# Altium footprint library ATACS_PCB.PcbLib: 19 footprints (part 1 of 2)
Each footprint in its own frame and in the unit in brackets; x right, y up, seen from the top. Pads: shape width x height; smd on the part's side, far side on the other; paste and mask are expansions set on the pad; w line width, h text height; cw(c..) or ccw(c..) is an arc to the next point about the centre after c.
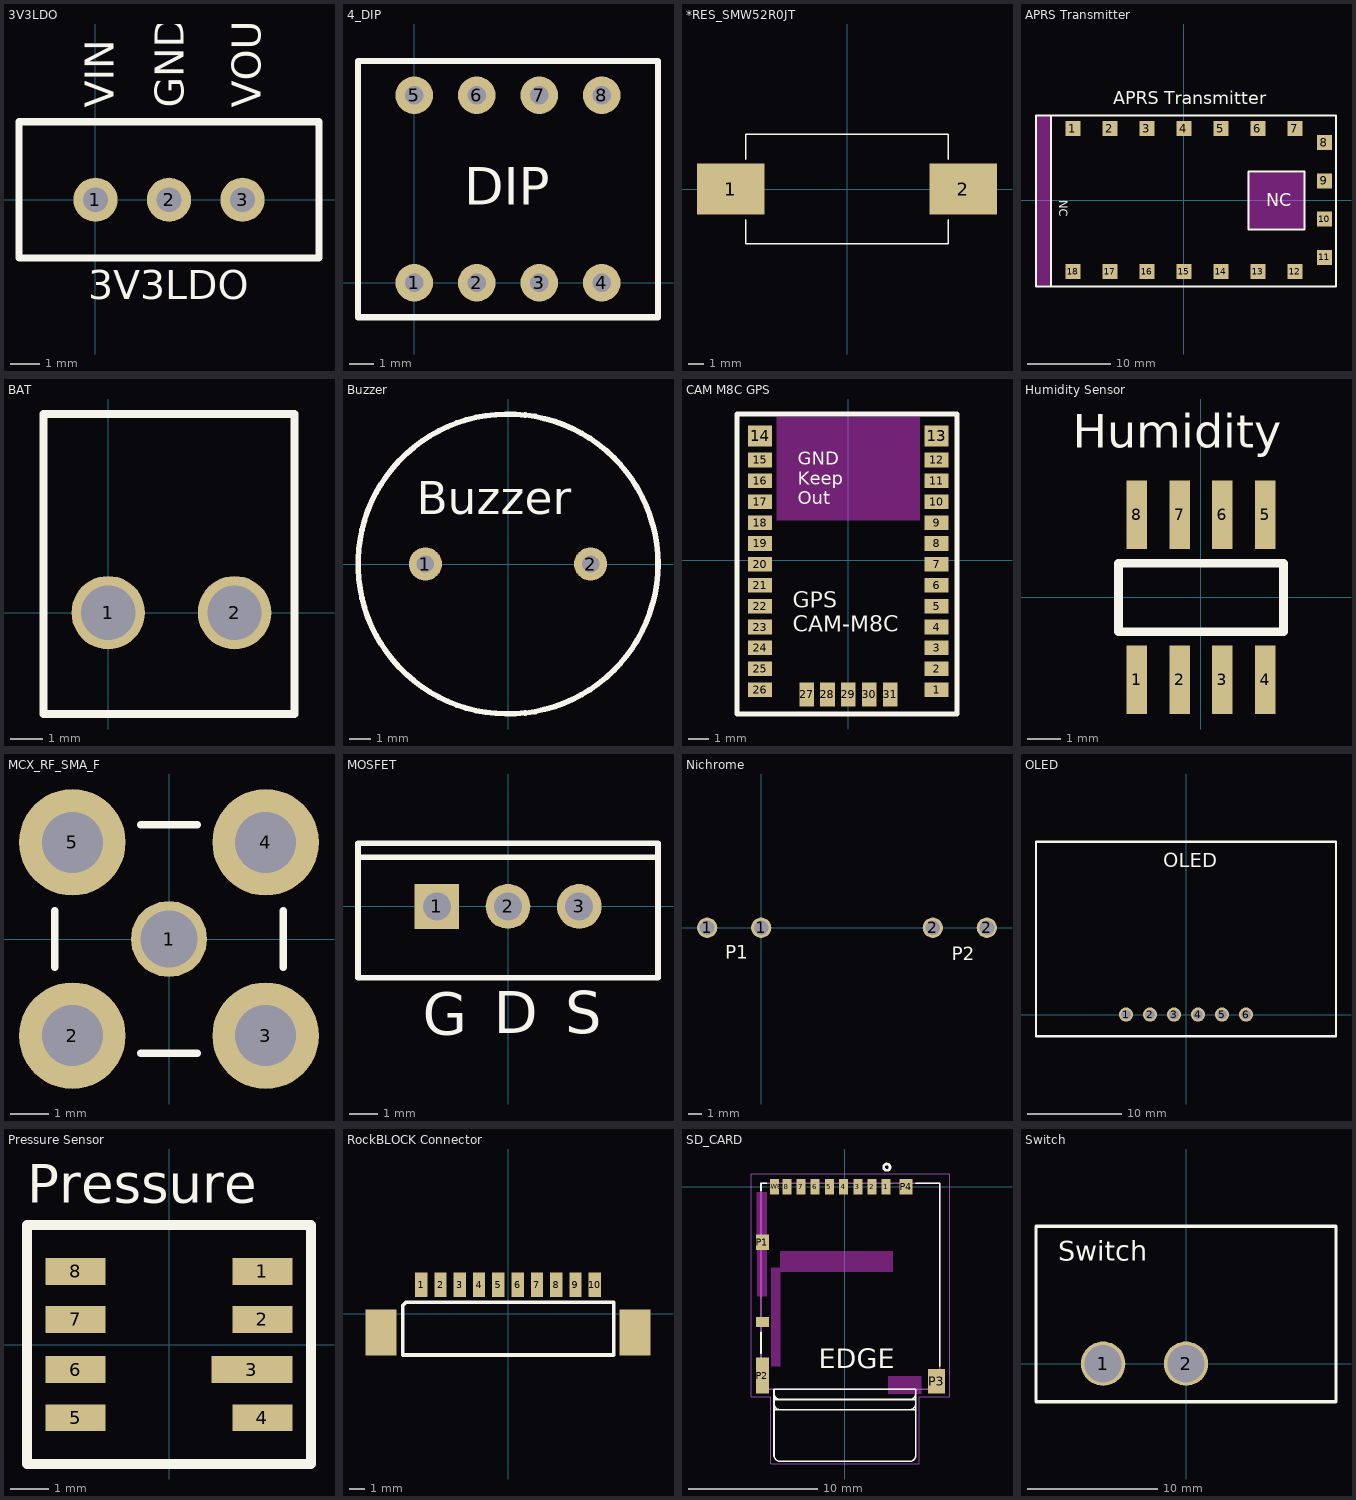
[diagram p0: the footprints below, top view; thin cyan lines are the x and y axes]

## 3V3LDO [mil]
pads (3):
  round 60 hole 33.46: 1(0,0) 2(100,0) 3(200,0)
Top Overlay:
  lines w10: -103.94,-79.13 -103.94,105.91 303.94,105.91 303.94,-79.13 -103.94,-79.13
  text "VOUT" at 225,125 h39.37
  text "GND" at 120,125 h39.37
  text "VIN" at 25,125 h39.37
  text "3V3LDO" at -10,-135 h39.37

## 4_DIP [mil]
pads (8):
  round 60 hole 30: 1(0,0) 2(100,0) 3(200,0) 4(300,0) 5(0,300) 6(100,300) 7(200,300) 8(300,300)
Top Overlay:
  lines w10: -90,-55 390,-55 390,355 -90,355 -90,-55
  text "DIP" at 80,125 h60

## *RES_SMW52R0JT [mm]
pads (2):
  rect 4.5x3.4 smd: 1(-7.75,0) 2(7.75,0)
Top Overlay:
  lines w0.127: -6.75,-2.05 -6.75,-3.65 6.75,-3.65 6.75,-2.05 ; -6.75,2 -6.75,3.65 6.75,3.65 6.75,2

## APRS Transmitter [mm] "DRA818V"
pads (18):
  rect 1.8x1.8 smd: 1(-13.35,8.6) 2(-8.9,8.6) 3(-4.45,8.6) 4(0,8.6) 5(4.45,8.6) 6(8.9,8.6) 7(13.35,8.6) 8(16.9,6.9) 9(16.9,2.3) 10(16.9,-2.3) 11(16.9,-6.9) 12(13.35,-8.6) 13(8.9,-8.6) 14(4.45,-8.6) 15(0,-8.6) 16(-4.45,-8.6) 17(-8.9,-8.6) 18(-13.35,-8.6)
Top Overlay:
  lines w0.254: -16,-10.414 -16,10.033 ; -17.8,-10.414 -17.8,10.16 18.288,10.16 18.288,-10.414 -17.8,-10.414 ; 7.747,-3.556 7.747,3.429 14.478,3.429 14.478,3.302 14.478,-3.556 7.747,-3.556
  text "." at -13.589,10.668 h1.52
  text "APRS Transmitter" at -8.509,11.557 h1.52
  text "NC" at -14.986,0 h1
  text "NC" at 9.906,-0.762 h1.52
Keep-Out Layer:
  rectangle: -17.78,-10.287 -16.002,10.16
  rectangle: 7.62,-3.429 14.478,3.302

## BAT [mm]
pads (2):
  round 2.3 hole 1.7: 1(0,0) 2(3.96,0)
Top Overlay:
  lines w0.254: -2.032,-3.175 -2.032,6.223 5.842,6.223 5.842,-3.175 -2.032,-3.175

## Buzzer [mm]
pads (2):
  round 1.524 hole 0.8: 1(-3.8,0) 2(3.8,0)
Top Overlay:
  circle w0.254: c0,0 r6.9
  text "Buzzer" at -4.191,2.286 h1.52

## CAM M8C GPS [mm]
pads (31):
  rect 1.15x0.7 smd: 1(4.225,-6.2) 2(4.225,-5.2) 3(4.225,-4.2) 4(4.225,-3.2) 5(4.225,-2.2) 6(4.225,-1.2) 7(4.225,-0.2) 8(4.225,0.8) 9(4.225,1.8) 10(4.225,2.8) 11(4.225,3.8) 12(4.225,4.8) 15(-4.225,4.8) 16(-4.225,3.8) 17(-4.225,2.8) 18(-4.225,1.8) 19(-4.225,0.8) 20(-4.225,-0.2) 21(-4.225,-1.2) 22(-4.225,-2.2) 23(-4.225,-3.2) 24(-4.225,-4.2) 25(-4.225,-5.2) 26(-4.225,-6.2)
  rect 1.15x1 smd: 13(4.225,5.95) 14(-4.225,5.95)
  rect 0.7x1.15 smd: 27(-2,-6.425) 28(-1,-6.425) 29(0,-6.425) 30(1,-6.425) 31(2,-6.425)
Top Overlay:
  lines w0.254: -5.334,-7.366 5.207,-7.366 5.207,7 -5.334,7 -5.334,-7.366
  text "GND  / Keep / Out" at -2.413,2.667 h0.64
  text "." at 5.588,-6.223 h0.76
  text "GPS / CAM-M8C" at -2.667,-3.429 h0.76
Keep-Out Layer:
  rectangle: -3.429,1.905 3.429,6.858

## Humidity Sensor [mm] "HIH6030-021-001"
pads (8):
  rect 0.61x2.03 smd: 1(-1.905,-2.45) 2(-0.635,-2.45) 3(0.635,-2.45) 4(1.905,-2.45) 5(1.905,2.45) 6(0.635,2.45) 7(-0.635,2.45) 8(-1.905,2.45)
Top Overlay:
  lines w0.254: -2.45,-1.016 2.45,-1.016 2.45,1.016 -2.45,1.016 -2.45,-1.016
  text "Humidity" at -3.81,4.445 h1
  text "." at -2.032,-4.699 h1

## MCX_RF_SMA_F [mm]
pads (5):
  round 2 hole 1.5: 1(0,0)
  round 2.8 hole 1.6: 2(-2.54,-2.54) 3(2.54,-2.54) 4(2.54,2.54) 5(-2.54,2.54)
Top Overlay:
  lines w0.2: -3,-0.74 -3,0.74 ; -0.74,-3 0.74,-3 ; -0.74,3 0.74,3 ; 3,-0.74 3,0.74

## MOSFET [mm] "TO, Thru-Hole, Vertical, Heatsink Mounted; 3 In-Line Leads; Pitch 2.54 mm"
height 19.1
pads (3):
  rect 1.6x1.6 hole 1: 1(-2.54,0)
  round 1.6 hole 1: 2(0,0) 3(2.54,0)
Top Overlay:
  lines w0.2: -5.35,1.75 5.35,1.75 ; -5.35,-2.55 -5.35,2.25 5.35,2.25 5.35,-2.55 -5.35,-2.55
  text "S" at 2.04,-4.525 h1.5
  text "D" at -0.5,-4.525 h1.5
  text "G" at -3.048,-4.572 h1.5

## Nichrome [mm]
pads (4):
  round 1.5 hole 1.1: 1(-4,0) 1(0,0) 2(12.7,0) 2(16.7,0)
Top Overlay:
  text "P2" at 14.097,-2.413 h1
  text "P1" at -2.667,-2.286 h1

## OLED [mm]
pads (6):
  round 1.5 hole 1.02: 1(-6.35,0) 2(-3.81,0) 3(-1.27,0) 4(1.27,0) 5(3.81,0) 6(6.35,0)
Top Overlay:
  lines w0.254: -15.875,-2.286 -15.875,18.288 15.875,18.288 15.875,-2.286 -15.875,-2.286
  text "." at -6.477,1.524 h1.52
  text "OLED" at -2.413,15.621 h1.52

## Pressure Sensor [mm] "MS580301BA01-00"
pads (8):
  rect 1.55x0.7 smd: 1(2.425,1.9) 2(2.425,0.65) 4(2.425,-1.9) 5(-2.425,-1.9) 6(-2.425,-0.65) 7(-2.425,0.65) 8(-2.425,1.9)
  rect 2.1x0.7 smd: 3(2.15,-0.65)
Top Overlay:
  lines w0.254: -3.683,-3.1 -3.683,3.1 3.683,3.1 3.683,-3.1 -3.683,-3.1
  text "." at 4.191,1.778 h1.52
  text "Pressure" at -3.683,3.683 h1

## RockBLOCK Connector [mm]
pads (12):
  rect 0.8x1.6 smd: 1(-5.625,1.9) 2(-4.375,1.9) 3(-3.125,1.9) 4(-1.875,1.9) 5(-0.625,1.9) 6(0.625,1.9) 7(1.875,1.9) 8(3.125,1.9) 9(4.375,1.9) 10(5.625,1.9)
  rect 2x3 smd: ""(-8.225,-1.2) ""(8.225,-1.2)
Top Overlay:
  lines w0.254: -6.826,-2.667 6.858,-2.667 6.858,0.762 -6.604,0.762 -6.826,0.54 -6.826,-2.667

## SD_CARD [mm]
pads (14):
  rect 0.7x1.2 smd: 1(3.2,0) 2(2.1,0) 3(1,0) 4(-0.1,0) 5(-1.2,0) 6(-2.3,0) 7(-3.4,0) 8(-4.5,0) SWB(-5.45,0)
  rect 1x1.2 smd: P1(-6.4,-4.3) P4(4.75,0)
  rect 1x2.8 smd: P2(-6.4,-14.65)
  rect 1.3x1.9 smd: P3(7.1,-15.1)
  rect 1x0.8 smd: SWA(-6.4,-10.5)
Top Overlay:
  circle w0.2: c3.25,1.5 r0.25
  lines w0.127: -6.5,-12.9 -6.5,-11.3 ; -6.5,-0.3 -6.5,0.25 -6.05,0.25 ; 5.5,0.25 7.35,0.25 7.35,-13.9 ; -5.5,-17.3 -5.5,-20.8 ccw(c-5,-20.8) -5,-21.3 5,-21.3 ccw(c5,-20.8) 5.5,-20.8 5.5,-17.3 ; -5.5,-17.3 -5.5,-16.8 ; -5.5,-17.3 -5,-17.3 ; -5.5,-16.8 ccw(c-5,-16.8) -5,-17.3 ; -5.5,-16.8 -5.5,-16.5 ; -5.5,-16.5 -5.5,-16 ; -5.5,-16.5 -5,-16.5 ; -5.5,-16 ccw(c-5,-16) -5,-16.5 ; -5.5,-16 -5.5,-15.7 5.5,-15.7 5.5,-16 ; -5,-17.3 5,-17.3 ; -5,-16.5 5,-16.5 ; 5,-17.3 ccw(c5,-16.8) 5.5,-16.8 ; 5,-17.3 5.5,-17.3 ; 5,-16.5 ccw(c5,-16) 5.5,-16 ; 5,-16.5 5.5,-16.5 ; 5.5,-17.3 5.5,-16.8 ; 5.5,-16.8 5.5,-16.5 ; 5.5,-16.5 5.5,-16
  text "EDGE" at -2.032,-14.097 h1.52
Keep-Out Layer:
  region: 3.351,-14.7 5.9,-14.7 5.9,-16.057 3.351,-16.057
  region: -5.003,-5 3.7,-5 3.7,-6.604 -5.003,-6.604
  region: -5.706,-6.3 -5,-6.3 -5,-13.915 -5.706,-13.915
  region: -6.804,-4.953 -6.05,-4.953 -6.05,-8.505 -6.804,-8.505
  region: -6.813,-0.45 -6.05,-0.45 -6.05,-3.683 -6.813,-3.683
  region: 3.351,-14.7 5.9,-14.7 5.9,-16.057 3.351,-16.057
  region: -5.003,-5 3.7,-5 3.7,-6.604 -5.003,-6.604
  region: -5.706,-6.3 -5,-6.3 -5,-13.915 -5.706,-13.915
  region: 3.351,-14.7 5.9,-14.7 5.9,-16.057 3.351,-16.057
  region: -5.003,-5 3.7,-5 3.7,-6.604 -5.003,-6.604
  region: -5.706,-6.3 -5,-6.3 -5,-13.915 -5.706,-13.915
Mechanical 13:
  lines w0.127: -6.5,-15.7 -6.5,0.25 ; -6.5,-15.7 7.35,-15.7 ; -6.5,-15.7 -6.5,0.25 ; -6.5,-15.7 7.35,-15.7 ; -6.5,0.25 7.35,0.25 ; -6.5,0.25 7.35,0.25 ; 7.35,-15.7 7.35,0.25 ; 7.35,-15.7 7.35,0.25
Mechanical 15:
  lines w0.05: -7.25,-16.3 -7.25,1 8.125,1 8.125,-16.3 5.75,-16.3 5.75,-21.5 -5.75,-21.5 -5.75,-16.3 -7.25,-16.3

## Switch [mm]
pads (2):
  round 3.4 hole 2.85: 1(-6.35,0) 2(0,0)
Top Overlay:
  lines w0.254: -11.495,-2.92 11.495,-2.92 11.495,10.54 -11.495,10.54 -11.495,-2.92
  text "Switch" at -9.779,7.874 h1.52